# EAGLE library part AD2S1210 (library Semiconductors > Integrated Circuits - ICs > Syncro_Resolver to Digital)
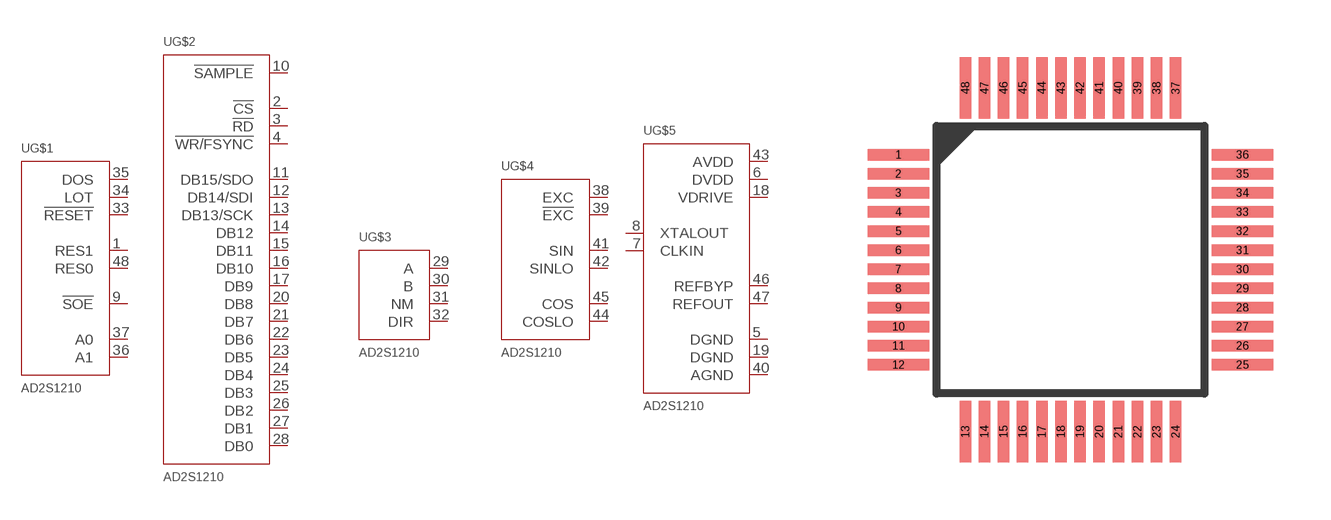
[diagram p0: symbol with the pads of QFP64; footprint QFP64]

Designator prefix U; gates G$1=AD2S1210-CFG G$2=AD2S1210-DIG G$3=AD2S1210-ENC G$4=AD2S1210-OUT G$5=AD2S1210-POW

## AD2S1210  [QFP64]
1  G$1:RES1
2  G$2:!CS
3  G$2:!RD
4  G$2:!WR/FSYNC
5  G$5:DGND
6  G$5:DVDD
7  G$5:CLKIN
8  G$5:XTALOUT
9  G$1:!SOE
10  G$2:!SAMPLE
11  G$2:DB15/SDO
12  G$2:DB14/SDI
13  G$2:DB13/SCK
14  G$2:DB12
15  G$2:DB11
16  G$2:DB10
17  G$2:DB9
18  G$5:VDRIVE
19  G$5:DGND
20  G$2:DB8
21  G$2:DB7
22  G$2:DB6
23  G$2:DB5
24  G$2:DB4
25  G$2:DB3
26  G$2:DB2
27  G$2:DB1
28  G$2:DB0
29  G$3:A
30  G$3:B
31  G$3:NM
32  G$3:DIR
33  G$1:!RESET
34  G$1:LOT
35  G$1:DOS
36  G$1:A1
37  G$1:A0
38  G$4:EXC
39  G$4:!EXC
40  G$5:AGND
41  G$4:SIN
42  G$4:SINLO
43  G$5:AVDD
44  G$4:COSLO
45  G$4:COS
46  G$5:REFBYP
47  G$5:REFOUT
48  G$1:RES0

## Footprint QFP64 (pad centres in mm)
smd 1.6 x 0.3: 1 -4.5,2.75; 2 -4.5,2.25; 3 -4.5,1.75; 4 -4.5,1.25; 5 -4.5,0.75; 6 -4.5,0.25; 7 -4.5,-0.25; 8 -4.5,-0.75; 9 -4.5,-1.25; 10 -4.5,-1.75; 11 -4.5,-2.25; 12 -4.5,-2.75; 25 4.5,-2.75; 26 4.5,-2.25; 27 4.5,-1.75; 28 4.5,-1.25; 29 4.5,-0.75; 30 4.5,-0.25; 31 4.5,0.25; 32 4.5,0.75; 33 4.5,1.25; 34 4.5,1.75; 35 4.5,2.25; 36 4.5,2.75
smd 0.3 x 1.6: 13 -2.75,-4.5; 14 -2.25,-4.5; 15 -1.75,-4.5; 16 -1.25,-4.5; 17 -0.75,-4.5; 18 -0.25,-4.5; 19 0.25,-4.5; 20 0.75,-4.5; 21 1.25,-4.5; 22 1.75,-4.5; 23 2.25,-4.5; 24 2.75,-4.5; 37 2.75,4.5; 38 2.25,4.5; 39 1.75,4.5; 40 1.25,4.5; 41 0.75,4.5; 42 0.25,4.5; 43 -0.25,4.5; 44 -0.75,4.5; 45 -1.25,4.5; 46 -1.75,4.5; 47 -2.25,4.5; 48 -2.75,4.5